# EAGLE library part ACJC6V (library ACJC6V)
Check availability <https://pricing.snapeda.com/parts/ACJC6V/Amphenol/view-part?ref=eda>
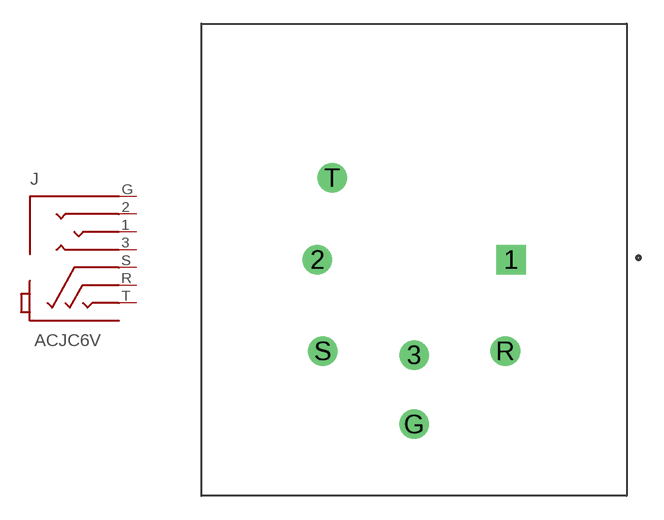
[diagram p0: symbol with the pads of AMPHENOL_ACJC6V; footprint AMPHENOL_ACJC6V]

Designator prefix J

## ACJC6V (Availability: In Stock; Check_prices: https://www.snapeda.com/parts/ACJC6V/Amphenol/view-part/?ref=eda; Description: XLR Connectors 3P Vert Mt PCB Recpt 1/4 Mono Jack; MF: Amphenol; MP: ACJC6V; Package: None; Price: None; SnapEDA_Link: https://www.snapeda.com/parts/ACJC6V/Amphenol/view-part/?ref=snap)  [AMPHENOL_ACJC6V]
1  1  pas
2  2  pas
3  3  pas
G  G  pas
R  R  pas
S  S  pas
T  T  pas

## Footprint AMPHENOL_ACJC6V (pad centres in mm)
drill 1.25 square: 1 6.15,0
drill 1.25: 2 -6.15,0; 3 0,-6.05; G 0,-10.45; R 5.8,-5.8; S -5.8,-5.8; T -5.2,5.2